# EAGLE library part LM358B (library Harrington-ICs)
LM358B Dual Op-amp Texas Instruments - Voltage Rails: 3-36V - Gain Bandwidth Product: 1.2MHz
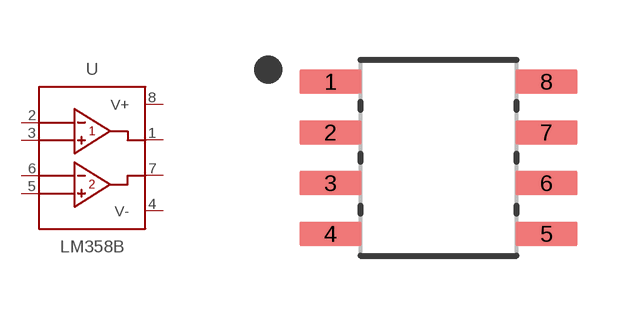
[diagram p4: symbol with the pads of D0008A-SOIC; footprint D0008A-SOIC]

Designator prefix U

## LM358B  [D0008A-SOIC]
1  OUT1  out
2  IN1-  in
3  IN1+  in
4  V-  pwr
5  IN2+  in
6  IN2-  in
7  OUT2  out
8  V+  pwr

## Footprint D0008A-SOIC (pad centres in mm)
smd 1.55 x 0.6: 1 -2.7,1.905; 2 -2.7,0.635; 3 -2.7,-0.635; 4 -2.7,-1.905; 5 2.7,-1.905; 6 2.7,-0.635; 7 2.7,0.635; 8 2.7,1.905